# Altium integrated library WCAP-ASLI_rev15a.intlib: 107 symbols (part 1 of 3)
Pins are listed as number, name and electrical type; pins without a type are passive.

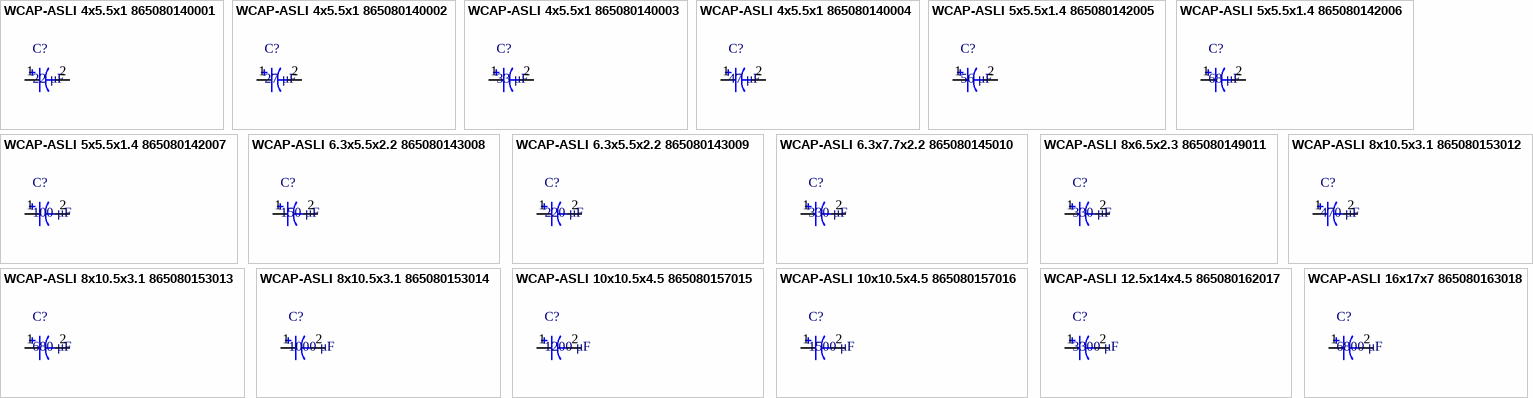
[diagram p0: symbols WCAP-ASLI 4x5.5x1 865080140001 to WCAP-ASLI 16x17x7 865080163018]

## WCAP-ASLI 4x5.5x1 865080140001
designator C?, comment 22 μF
WCAP-ASLI Aluminum Electrolytic Capacitors , 22 μF; + / - 20%; 6,3 V , 4 x 5,5; Manufacturer: Wurth Elektronik; partNo: 865080140001; E-mail: libraries@we-online.com; Characteristics: Aluminum Electrolytic Capacitor;Recommended soldering: Reflow;Operating temperature: –55 °C to +105 °C;Low impedance product series;Load life: 2000 h @ +105 °C; ComponentLink1Description: Manufacturer; ComponentLink1URL: http://www.we-online.com; ComponentLink2Description: Datasheet; ComponentLink2URL: http://katalog.we-online.de/pbs/datasheet/865080140001.pdf; Created by: Karrer Zheng; Created Date: 5/13/2015; Capacitance: 22 μF; Application: Energy storage or high frequency filtering in the low voltage circuit; used as power supply filtering in general switching power supply, DC-DC converter, AC-DC converter, conversion adapter, charger, TV, VCR, DC motor circuit filter, digital audio, digital TV, digital camera, digital video camera, satellite receiver, equipment control panel and etc.
footprint WCAP-ASLI 4x5.5x1
pins: 1, 2

## WCAP-ASLI 4x5.5x1 865080140002
designator C?, comment 27 μF
WCAP-ASLI Aluminum Electrolytic Capacitors , 27 μF; + / - 20%; 6,3 V , 4 x 5,5; Manufacturer: Wurth Elektronik; partNo: 865080140002; E-mail: libraries@we-online.com; Characteristics: Aluminum Electrolytic Capacitor;Recommended soldering: Reflow;Operating temperature: –55 °C to +105 °C;Low impedance product series;Load life: 2000 h @ +105 °C; ComponentLink1Description: Manufacturer; ComponentLink1URL: http://www.we-online.com; ComponentLink2Description: Datasheet; ComponentLink2URL: http://katalog.we-online.de/pbs/datasheet/865080140002.pdf; Created by: Karrer Zheng; Created Date: 5/13/2015; Capacitance: 27 μF; Application: Energy storage or high frequency filtering in the low voltage circuit; used as power supply filtering in general switching power supply, DC-DC converter, AC-DC converter, conversion adapter, charger, TV, VCR, DC motor circuit filter, digital audio, digital TV, digital camera, digital video camera, satellite receiver, equipment control panel and etc.
footprint WCAP-ASLI 4x5.5x1
pins: 1, 2

## WCAP-ASLI 4x5.5x1 865080140003
designator C?, comment 33 μF
WCAP-ASLI Aluminum Electrolytic Capacitors , 33 μF; + / - 20%; 6,3 V , 4 x 5,5; Manufacturer: Wurth Elektronik; partNo: 865080140003; E-mail: libraries@we-online.com; Characteristics: Aluminum Electrolytic Capacitor;Recommended soldering: Reflow;Operating temperature: –55 °C to +105 °C;Low impedance product series;Load life: 2000 h @ +105 °C; ComponentLink1Description: Manufacturer; ComponentLink1URL: http://www.we-online.com; ComponentLink2Description: Datasheet; ComponentLink2URL: http://katalog.we-online.de/pbs/datasheet/865080140003.pdf; Created by: Karrer Zheng; Created Date: 5/13/2015; Capacitance: 33 μF; Application: Energy storage or high frequency filtering in the low voltage circuit; used as power supply filtering in general switching power supply, DC-DC converter, AC-DC converter, conversion adapter, charger, TV, VCR, DC motor circuit filter, digital audio, digital TV, digital camera, digital video camera, satellite receiver, equipment control panel and etc.
footprint WCAP-ASLI 4x5.5x1
pins: 1, 2

## WCAP-ASLI 4x5.5x1 865080140004
designator C?, comment 47 μF
WCAP-ASLI Aluminum Electrolytic Capacitors , 47 μF; + / - 20%; 6,3 V , 4 x 5,5; Manufacturer: Wurth Elektronik; partNo: 865080140004; E-mail: libraries@we-online.com; Characteristics: Aluminum Electrolytic Capacitor;Recommended soldering: Reflow;Operating temperature: –55 °C to +105 °C;Low impedance product series;Load life: 2000 h @ +105 °C; ComponentLink1Description: Manufacturer; ComponentLink1URL: http://www.we-online.com; ComponentLink2Description: Datasheet; ComponentLink2URL: http://katalog.we-online.de/pbs/datasheet/865080140004.pdf; Created by: Karrer Zheng; Created Date: 5/13/2015; Capacitance: 47 μF; Application: Energy storage or high frequency filtering in the low voltage circuit; used as power supply filtering in general switching power supply, DC-DC converter, AC-DC converter, conversion adapter, charger, TV, VCR, DC motor circuit filter, digital audio, digital TV, digital camera, digital video camera, satellite receiver, equipment control panel and etc.
footprint WCAP-ASLI 4x5.5x1
pins: 1, 2

## WCAP-ASLI 5x5.5x1.4 865080142005
designator C?, comment 56 μF
WCAP-ASLI Aluminum Electrolytic Capacitors , 56 μF; + / - 20%; 6,3 V , 5 x 5,5; Manufacturer: Wurth Elektronik; partNo: 865080142005; E-mail: libraries@we-online.com; Characteristics: Aluminum Electrolytic Capacitor;Recommended soldering: Reflow;Operating temperature: –55 °C to +105 °C;Low impedance product series;Load life: 2000 h @ +105 °C; ComponentLink1Description: Manufacturer; ComponentLink1URL: http://www.we-online.com; ComponentLink2Description: Datasheet; ComponentLink2URL: http://katalog.we-online.de/pbs/datasheet/865080142005.pdf; Created by: Karrer Zheng; Created Date: 5/13/2015; Capacitance: 56 μF; Application: Energy storage or high frequency filtering in the low voltage circuit; used as power supply filtering in general switching power supply, DC-DC converter, AC-DC converter, conversion adapter, charger, TV, VCR, DC motor circuit filter, digital audio, digital TV, digital camera, digital video camera, satellite receiver, equipment control panel and etc.
footprint WCAP-ASLI 5x5.5x1.4
pins: 1, 2

## WCAP-ASLI 5x5.5x1.4 865080142006
designator C?, comment 68 μF
WCAP-ASLI Aluminum Electrolytic Capacitors , 68 μF; + / - 20%; 6,3 V , 5 x 5,5; Manufacturer: Wurth Elektronik; partNo: 865080142006; E-mail: libraries@we-online.com; Characteristics: Aluminum Electrolytic Capacitor;Recommended soldering: Reflow;Operating temperature: –55 °C to +105 °C;Low impedance product series;Load life: 2000 h @ +105 °C; ComponentLink1Description: Manufacturer; ComponentLink1URL: http://www.we-online.com; ComponentLink2Description: Datasheet; ComponentLink2URL: http://katalog.we-online.de/pbs/datasheet/865080142006.pdf; Created by: Karrer Zheng; Created Date: 5/13/2015; Capacitance: 68 μF; Application: Energy storage or high frequency filtering in the low voltage circuit; used as power supply filtering in general switching power supply, DC-DC converter, AC-DC converter, conversion adapter, charger, TV, VCR, DC motor circuit filter, digital audio, digital TV, digital camera, digital video camera, satellite receiver, equipment control panel and etc.
footprint WCAP-ASLI 5x5.5x1.4
pins: 1, 2

## WCAP-ASLI 5x5.5x1.4 865080142007
designator C?, comment 100 μF
WCAP-ASLI Aluminum Electrolytic Capacitors , 100 μF; + / - 20%; 6,3 V , 5 x 5,5; Manufacturer: Wurth Elektronik; partNo: 865080142007; E-mail: libraries@we-online.com; Characteristics: Aluminum Electrolytic Capacitor;Recommended soldering: Reflow;Operating temperature: –55 °C to +105 °C;Low impedance product series;Load life: 2000 h @ +105 °C; ComponentLink1Description: Manufacturer; ComponentLink1URL: http://www.we-online.com; ComponentLink2Description: Datasheet; ComponentLink2URL: http://katalog.we-online.de/pbs/datasheet/865080142007.pdf; Created by: Karrer Zheng; Created Date: 5/13/2015; Capacitance: 100 μF; Application: Energy storage or high frequency filtering in the low voltage circuit; used as power supply filtering in general switching power supply, DC-DC converter, AC-DC converter, conversion adapter, charger, TV, VCR, DC motor circuit filter, digital audio, digital TV, digital camera, digital video camera, satellite receiver, equipment control panel and etc.
footprint WCAP-ASLI 5x5.5x1.4
pins: 1, 2

## WCAP-ASLI 6.3x5.5x2.2 865080143008
designator C?, comment 150 μF
WCAP-ASLI Aluminum Electrolytic Capacitors , 150 μF; + / - 20%; 6,3 V , 6,3 x 5,5; Manufacturer: Wurth Elektronik; partNo: 865080143008; E-mail: libraries@we-online.com; Characteristics: Aluminum Electrolytic Capacitor;Recommended soldering: Reflow;Operating temperature: –55 °C to +105 °C;Low impedance product series;Load life: 2000 h @ +105 °C; ComponentLink1Description: Manufacturer; ComponentLink1URL: http://www.we-online.com; ComponentLink2Description: Datasheet; ComponentLink2URL: http://katalog.we-online.de/pbs/datasheet/865080143008.pdf; Created by: Karrer Zheng; Created Date: 5/13/2015; Capacitance: 150 μF; Application: Energy storage or high frequency filtering in the low voltage circuit; used as power supply filtering in general switching power supply, DC-DC converter, AC-DC converter, conversion adapter, charger, TV, VCR, DC motor circuit filter, digital audio, digital TV, digital camera, digital video camera, satellite receiver, equipment control panel and etc.
footprint WCAP-ASLI 6.3x5.5x2.2
pins: 1, 2

## WCAP-ASLI 6.3x5.5x2.2 865080143009
designator C?, comment 220 μF
WCAP-ASLI Aluminum Electrolytic Capacitors , 220 μF; + / - 20%; 6,3 V , 6,3 x 5,5; Manufacturer: Wurth Elektronik; partNo: 865080143009; E-mail: libraries@we-online.com; Characteristics: Aluminum Electrolytic Capacitor;Recommended soldering: Reflow;Operating temperature: –55 °C to +105 °C;Low impedance product series;Load life: 2000 h @ +105 °C; ComponentLink1Description: Manufacturer; ComponentLink1URL: http://www.we-online.com; ComponentLink2Description: Datasheet; ComponentLink2URL: http://katalog.we-online.de/pbs/datasheet/865080143009.pdf; Created by: Karrer Zheng; Created Date: 5/13/2015; Capacitance: 220 μF; Application: Energy storage or high frequency filtering in the low voltage circuit; used as power supply filtering in general switching power supply, DC-DC converter, AC-DC converter, conversion adapter, charger, TV, VCR, DC motor circuit filter, digital audio, digital TV, digital camera, digital video camera, satellite receiver, equipment control panel and etc.
footprint WCAP-ASLI 6.3x5.5x2.2
pins: 1, 2

## WCAP-ASLI 6.3x7.7x2.2 865080145010
designator C?, comment 330 μF
WCAP-ASLI Aluminum Electrolytic Capacitors , 330 μF; + / - 20%; 6,3 V , 6,3 x 7,7; Manufacturer: Wurth Elektronik; partNo: 865080145010; E-mail: libraries@we-online.com; Characteristics: Aluminum Electrolytic Capacitor;Recommended soldering: Reflow;Operating temperature: –55 °C to +105 °C;Low impedance product series;Load life: 2000 h @ +105 °C; ComponentLink1Description: Manufacturer; ComponentLink1URL: http://www.we-online.com; ComponentLink2Description: Datasheet; ComponentLink2URL: http://katalog.we-online.de/pbs/datasheet/865080145010.pdf; Created by: Karrer Zheng; Created Date: 5/13/2015; Capacitance: 330 μF; Application: Energy storage or high frequency filtering in the low voltage circuit; used as power supply filtering in general switching power supply, DC-DC converter, AC-DC converter, conversion adapter, charger, TV, VCR, DC motor circuit filter, digital audio, digital TV, digital camera, digital video camera, satellite receiver, equipment control panel and etc.
footprint WCAP-ASLI 6.3x7.7x2.2
pins: 1, 2

## WCAP-ASLI 8x6.5x2.3 865080149011
designator C?, comment 330 μF
WCAP-ASLI Aluminum Electrolytic Capacitors , 330 μF; + / - 20%; 6,3 V , 8 x 6,5; Manufacturer: Wurth Elektronik; partNo: 865080149011; E-mail: libraries@we-online.com; Characteristics: Aluminum Electrolytic Capacitor;Recommended soldering: Reflow;Operating temperature: –55 °C to +105 °C;Low impedance product series;Load life: 2000 h @ +105 °C; ComponentLink1Description: Manufacturer; ComponentLink1URL: http://www.we-online.com; ComponentLink2Description: Datasheet; ComponentLink2URL: http://katalog.we-online.de/pbs/datasheet/865080149011.pdf; Created by: Karrer Zheng; Created Date: 5/13/2015; Capacitance: 330 μF; Application: Energy storage or high frequency filtering in the low voltage circuit; used as power supply filtering in general switching power supply, DC-DC converter, AC-DC converter, conversion adapter, charger, TV, VCR, DC motor circuit filter, digital audio, digital TV, digital camera, digital video camera, satellite receiver, equipment control panel and etc.
footprint WCAP-ASLI 8x6.5x2.3
pins: 1, 2

## WCAP-ASLI 8x10.5x3.1 865080153012
designator C?, comment 470 μF
WCAP-ASLI Aluminum Electrolytic Capacitors , 470 μF; + / - 20%; 6,3 V , 8 x 10,5; Manufacturer: Wurth Elektronik; partNo: 865080153012; E-mail: libraries@we-online.com; Characteristics: Aluminum Electrolytic Capacitor;Recommended soldering: Reflow;Operating temperature: –55 °C to +105 °C;Low impedance product series;Load life: 2000 h @ +105 °C; ComponentLink1Description: Manufacturer; ComponentLink1URL: http://www.we-online.com; ComponentLink2Description: Datasheet; ComponentLink2URL: http://katalog.we-online.de/pbs/datasheet/865080153012.pdf; Created by: Karrer Zheng; Created Date: 5/13/2015; Capacitance: 470 μF; Application: Energy storage or high frequency filtering in the low voltage circuit; used as power supply filtering in general switching power supply, DC-DC converter, AC-DC converter, conversion adapter, charger, TV, VCR, DC motor circuit filter, digital audio, digital TV, digital camera, digital video camera, satellite receiver, equipment control panel and etc.
footprint WCAP-ASLI 8x10.5x3.1
pins: 1, 2

## WCAP-ASLI 8x10.5x3.1 865080153013
designator C?, comment 680 μF
WCAP-ASLI Aluminum Electrolytic Capacitors , 680 μF; + / - 20%; 6,3 V , 8 x 10,5; Manufacturer: Wurth Elektronik; partNo: 865080153013; E-mail: libraries@we-online.com; Characteristics: Aluminum Electrolytic Capacitor;Recommended soldering: Reflow;Operating temperature: –55 °C to +105 °C;Low impedance product series;Load life: 2000 h @ +105 °C; ComponentLink1Description: Manufacturer; ComponentLink1URL: http://www.we-online.com; ComponentLink2Description: Datasheet; ComponentLink2URL: http://katalog.we-online.de/pbs/datasheet/865080153013.pdf; Created by: Karrer Zheng; Created Date: 5/13/2015; Capacitance: 680 μF; Application: Energy storage or high frequency filtering in the low voltage circuit; used as power supply filtering in general switching power supply, DC-DC converter, AC-DC converter, conversion adapter, charger, TV, VCR, DC motor circuit filter, digital audio, digital TV, digital camera, digital video camera, satellite receiver, equipment control panel and etc.
footprint WCAP-ASLI 8x10.5x3.1
pins: 1, 2

## WCAP-ASLI 8x10.5x3.1 865080153014
designator C?, comment 1000 μF
WCAP-ASLI Aluminum Electrolytic Capacitors , 1000 μF; + / - 20%; 6,3 V , 8 x 10,5; Manufacturer: Wurth Elektronik; partNo: 865080153014; E-mail: libraries@we-online.com; Characteristics: Aluminum Electrolytic Capacitor;Recommended soldering: Reflow;Operating temperature: –55 °C to +105 °C;Low impedance product series;Load life: 2000 h @ +105 °C; ComponentLink1Description: Manufacturer; ComponentLink1URL: http://www.we-online.com; ComponentLink2Description: Datasheet; ComponentLink2URL: http://katalog.we-online.de/pbs/datasheet/865080153014.pdf; Created by: Karrer Zheng; Created Date: 5/13/2015; Capacitance: 1000 μF; Application: Energy storage or high frequency filtering in the low voltage circuit; used as power supply filtering in general switching power supply, DC-DC converter, AC-DC converter, conversion adapter, charger, TV, VCR, DC motor circuit filter, digital audio, digital TV, digital camera, digital video camera, satellite receiver, equipment control panel and etc.
footprint WCAP-ASLI 8x10.5x3.1
pins: 1, 2

## WCAP-ASLI 10x10.5x4.5 865080157015
designator C?, comment 1200 μF
WCAP-ASLI Aluminum Electrolytic Capacitors , 1200 μF; + / - 20%; 6,3 V , 10 x 10,5; Manufacturer: Wurth Elektronik; partNo: 865080157015; E-mail: libraries@we-online.com; Characteristics: Aluminum Electrolytic Capacitor;Recommended soldering: Reflow;Operating temperature: –55 °C to +105 °C;Low impedance product series;Load life: 2000 h @ +105 °C; ComponentLink1Description: Manufacturer; ComponentLink1URL: http://www.we-online.com; ComponentLink2Description: Datasheet; ComponentLink2URL: http://katalog.we-online.de/pbs/datasheet/865080157015.pdf; Created by: Karrer Zheng; Created Date: 5/13/2015; Capacitance: 1200 μF; Application: Energy storage or high frequency filtering in the low voltage circuit; used as power supply filtering in general switching power supply, DC-DC converter, AC-DC converter, conversion adapter, charger, TV, VCR, DC motor circuit filter, digital audio, digital TV, digital camera, digital video camera, satellite receiver, equipment control panel and etc.
footprint WCAP-ASLI 10x10.5x4.5
pins: 1, 2

## WCAP-ASLI 10x10.5x4.5 865080157016
designator C?, comment 1500 μF
WCAP-ASLI Aluminum Electrolytic Capacitors , 1500 μF; + / - 20%; 6,3 V , 10 x 10,5; Manufacturer: Wurth Elektronik; partNo: 865080157016; E-mail: libraries@we-online.com; Characteristics: Aluminum Electrolytic Capacitor;Recommended soldering: Reflow;Operating temperature: –55 °C to +105 °C;Low impedance product series;Load life: 2000 h @ +105 °C; ComponentLink1Description: Manufacturer; ComponentLink1URL: http://www.we-online.com; ComponentLink2Description: Datasheet; ComponentLink2URL: http://katalog.we-online.de/pbs/datasheet/865080157016.pdf; Created by: Karrer Zheng; Created Date: 5/13/2015; Capacitance: 1500 μF; Application: Energy storage or high frequency filtering in the low voltage circuit; used as power supply filtering in general switching power supply, DC-DC converter, AC-DC converter, conversion adapter, charger, TV, VCR, DC motor circuit filter, digital audio, digital TV, digital camera, digital video camera, satellite receiver, equipment control panel and etc.
footprint WCAP-ASLI 10x10.5x4.5
pins: 1, 2

## WCAP-ASLI 12.5x14x4.5 865080162017
designator C?, comment 3300 μF
WCAP-ASLI Aluminum Electrolytic Capacitors , 3300 μF; + / - 20%; 6,3 V , 12,5 x 14; Manufacturer: Wurth Elektronik; partNo: 865080162017; E-mail: libraries@we-online.com; Characteristics: Aluminum Electrolytic Capacitor;Recommended soldering: Reflow;Operating temperature: –55 °C to +105 °C;Low impedance product series;Load life: 2000 h @ +105 °C; ComponentLink1Description: Manufacturer; ComponentLink1URL: http://www.we-online.com; ComponentLink2Description: Datasheet; ComponentLink2URL: http://katalog.we-online.de/pbs/datasheet/865080162017.pdf; Created by: Karrer Zheng; Created Date: 5/13/2015; Capacitance: 3300 μF; Application: Energy storage or high frequency filtering in the low voltage circuit; used as power supply filtering in general switching power supply, DC-DC converter, AC-DC converter, conversion adapter, charger, TV, VCR, DC motor circuit filter, digital audio, digital TV, digital camera, digital video camera, satellite receiver, equipment control panel and etc.
footprint WCAP-ASLI 12.5x14x4.5
pins: 1, 2

## WCAP-ASLI 16x17x7 865080163018
designator C?, comment 6800 μF
WCAP-ASLI Aluminum Electrolytic Capacitors , 6800 μF; + / - 20%; 6,3 V , 16 x 17; Manufacturer: Wurth Elektronik; partNo: 865080163018; E-mail: libraries@we-online.com; Characteristics: Aluminum Electrolytic Capacitor;Recommended soldering: Reflow;Operating temperature: –55 °C to +105 °C;Low impedance product series;Load life: 2000 h @ +105 °C; ComponentLink1Description: Manufacturer; ComponentLink1URL: http://www.we-online.com; ComponentLink2Description: Datasheet; ComponentLink2URL: http://katalog.we-online.de/pbs/datasheet/865080163018.pdf; Created by: Karrer Zheng; Created Date: 5/13/2015; Capacitance: 6800 μF; Application: Energy storage or high frequency filtering in the low voltage circuit; used as power supply filtering in general switching power supply, DC-DC converter, AC-DC converter, conversion adapter, charger, TV, VCR, DC motor circuit filter, digital audio, digital TV, digital camera, digital video camera, satellite receiver, equipment control panel and etc.
footprint WCAP-ASLI 16x17x7
pins: 1, 2


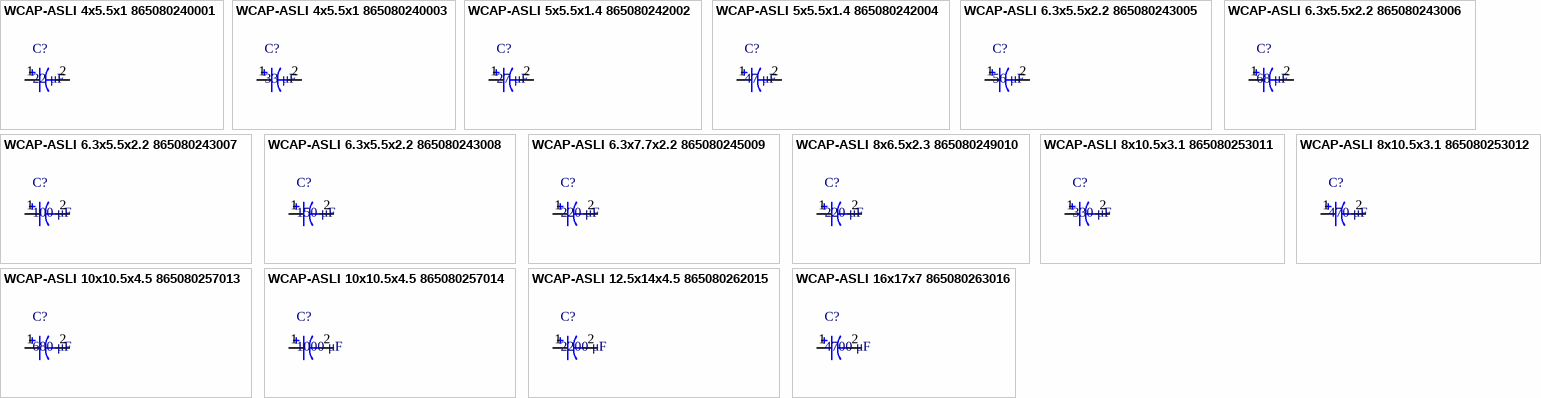
[diagram p1: symbols WCAP-ASLI 4x5.5x1 865080240001 to WCAP-ASLI 16x17x7 865080263016]

## WCAP-ASLI 4x5.5x1 865080240001
designator C?, comment 22 μF
WCAP-ASLI Aluminum Electrolytic Capacitors , 22 μF; + / - 20%; 10 V , 4 x 5,5; Manufacturer: Wurth Elektronik; partNo: 865080240001; E-mail: libraries@we-online.com; Characteristics: Aluminum Electrolytic Capacitor;Recommended soldering: Reflow;Operating temperature: –55 °C to +105 °C;Low impedance product series;Load life: 2000 h @ +105 °C; ComponentLink1Description: Manufacturer; ComponentLink1URL: http://www.we-online.com; ComponentLink2Description: Datasheet; ComponentLink2URL: http://katalog.we-online.de/pbs/datasheet/865080240001.pdf; Created by: Karrer Zheng; Created Date: 5/13/2015; Capacitance: 22 μF; Application: Energy storage or high frequency filtering in the low voltage circuit; used as power supply filtering in general switching power supply, DC-DC converter, AC-DC converter, conversion adapter, charger, TV, VCR, DC motor circuit filter, digital audio, digital TV, digital camera, digital video camera, satellite receiver, equipment control panel and etc.
footprint WCAP-ASLI 4x5.5x1
pins: 1, 2

## WCAP-ASLI 4x5.5x1 865080240003
designator C?, comment 33 μF
WCAP-ASLI Aluminum Electrolytic Capacitors , 33 μF; + / - 20%; 10 V , 4 x 5,5; Manufacturer: Wurth Elektronik; partNo: 865080240003; E-mail: libraries@we-online.com; Characteristics: Aluminum Electrolytic Capacitor;Recommended soldering: Reflow;Operating temperature: –55 °C to +105 °C;Low impedance product series;Load life: 2000 h @ +105 °C; ComponentLink1Description: Manufacturer; ComponentLink1URL: http://www.we-online.com; ComponentLink2Description: Datasheet; ComponentLink2URL: http://katalog.we-online.de/pbs/datasheet/865080240003.pdf; Created by: Karrer Zheng; Created Date: 5/13/2015; Capacitance: 33 μF; Application: Energy storage or high frequency filtering in the low voltage circuit; used as power supply filtering in general switching power supply, DC-DC converter, AC-DC converter, conversion adapter, charger, TV, VCR, DC motor circuit filter, digital audio, digital TV, digital camera, digital video camera, satellite receiver, equipment control panel and etc.
footprint WCAP-ASLI 4x5.5x1
pins: 1, 2

## WCAP-ASLI 5x5.5x1.4 865080242002
designator C?, comment 27 μF
WCAP-ASLI Aluminum Electrolytic Capacitors , 27 μF; + / - 20%; 10 V , 5 x 5,5; Manufacturer: Wurth Elektronik; partNo: 865080242002; E-mail: libraries@we-online.com; Characteristics: Aluminum Electrolytic Capacitor;Recommended soldering: Reflow;Operating temperature: –55 °C to +105 °C;Low impedance product series;Load life: 2000 h @ +105 °C; ComponentLink1Description: Manufacturer; ComponentLink1URL: http://www.we-online.com; ComponentLink2Description: Datasheet; ComponentLink2URL: http://katalog.we-online.de/pbs/datasheet/865080242002.pdf; Created by: Karrer Zheng; Created Date: 5/13/2015; Capacitance: 27 μF; Application: Energy storage or high frequency filtering in the low voltage circuit; used as power supply filtering in general switching power supply, DC-DC converter, AC-DC converter, conversion adapter, charger, TV, VCR, DC motor circuit filter, digital audio, digital TV, digital camera, digital video camera, satellite receiver, equipment control panel and etc.
footprint WCAP-ASLI 5x5.5x1.4
pins: 1, 2

## WCAP-ASLI 5x5.5x1.4 865080242004
designator C?, comment 47 μF
WCAP-ASLI Aluminum Electrolytic Capacitors , 47 μF; + / - 20%; 10 V , 5 x 5,5; Manufacturer: Wurth Elektronik; partNo: 865080242004; E-mail: libraries@we-online.com; Characteristics: Aluminum Electrolytic Capacitor;Recommended soldering: Reflow;Operating temperature: –55 °C to +105 °C;Low impedance product series;Load life: 2000 h @ +105 °C; ComponentLink1Description: Manufacturer; ComponentLink1URL: http://www.we-online.com; ComponentLink2Description: Datasheet; ComponentLink2URL: http://katalog.we-online.de/pbs/datasheet/865080242004.pdf; Created by: Karrer Zheng; Created Date: 5/13/2015; Capacitance: 47 μF; Application: Energy storage or high frequency filtering in the low voltage circuit; used as power supply filtering in general switching power supply, DC-DC converter, AC-DC converter, conversion adapter, charger, TV, VCR, DC motor circuit filter, digital audio, digital TV, digital camera, digital video camera, satellite receiver, equipment control panel and etc.
footprint WCAP-ASLI 5x5.5x1.4
pins: 1, 2

## WCAP-ASLI 6.3x5.5x2.2 865080243005
designator C?, comment 56 μF
WCAP-ASLI Aluminum Electrolytic Capacitors , 56 μF; + / - 20%; 10 V , 6,3 x 5,5; Manufacturer: Wurth Elektronik; partNo: 865080243005; E-mail: libraries@we-online.com; Characteristics: Aluminum Electrolytic Capacitor;Recommended soldering: Reflow;Operating temperature: –55 °C to +105 °C;Low impedance product series;Load life: 2000 h @ +105 °C; ComponentLink1Description: Manufacturer; ComponentLink1URL: http://www.we-online.com; ComponentLink2Description: Datasheet; ComponentLink2URL: http://katalog.we-online.de/pbs/datasheet/865080243005.pdf; Created by: Karrer Zheng; Created Date: 5/13/2015; Capacitance: 56 μF; Application: Energy storage or high frequency filtering in the low voltage circuit; used as power supply filtering in general switching power supply, DC-DC converter, AC-DC converter, conversion adapter, charger, TV, VCR, DC motor circuit filter, digital audio, digital TV, digital camera, digital video camera, satellite receiver, equipment control panel and etc.
footprint WCAP-ASLI 6.3x5.5x2.2
pins: 1, 2

## WCAP-ASLI 6.3x5.5x2.2 865080243006
designator C?, comment 68 μF
WCAP-ASLI Aluminum Electrolytic Capacitors , 68 μF; + / - 20%; 10 V , 6,3 x 5,5; Manufacturer: Wurth Elektronik; partNo: 865080243006; E-mail: libraries@we-online.com; Characteristics: Aluminum Electrolytic Capacitor;Recommended soldering: Reflow;Operating temperature: –55 °C to +105 °C;Low impedance product series;Load life: 2000 h @ +105 °C; ComponentLink1Description: Manufacturer; ComponentLink1URL: http://www.we-online.com; ComponentLink2Description: Datasheet; ComponentLink2URL: http://katalog.we-online.de/pbs/datasheet/865080243006.pdf; Created by: Karrer Zheng; Created Date: 5/13/2015; Capacitance: 68 μF; Application: Energy storage or high frequency filtering in the low voltage circuit; used as power supply filtering in general switching power supply, DC-DC converter, AC-DC converter, conversion adapter, charger, TV, VCR, DC motor circuit filter, digital audio, digital TV, digital camera, digital video camera, satellite receiver, equipment control panel and etc.
footprint WCAP-ASLI 6.3x5.5x2.2
pins: 1, 2

## WCAP-ASLI 6.3x5.5x2.2 865080243007
designator C?, comment 100 μF
WCAP-ASLI Aluminum Electrolytic Capacitors , 100 μF; + / - 20%; 10 V , 6,3 x 5,5; Manufacturer: Wurth Elektronik; partNo: 865080243007; E-mail: libraries@we-online.com; Characteristics: Aluminum Electrolytic Capacitor;Recommended soldering: Reflow;Operating temperature: –55 °C to +105 °C;Low impedance product series;Load life: 2000 h @ +105 °C; ComponentLink1Description: Manufacturer; ComponentLink1URL: http://www.we-online.com; ComponentLink2Description: Datasheet; ComponentLink2URL: http://katalog.we-online.de/pbs/datasheet/865080243007.pdf; Created by: Karrer Zheng; Created Date: 5/13/2015; Capacitance: 100 μF; Application: Energy storage or high frequency filtering in the low voltage circuit; used as power supply filtering in general switching power supply, DC-DC converter, AC-DC converter, conversion adapter, charger, TV, VCR, DC motor circuit filter, digital audio, digital TV, digital camera, digital video camera, satellite receiver, equipment control panel and etc.
footprint WCAP-ASLI 6.3x5.5x2.2
pins: 1, 2

## WCAP-ASLI 6.3x5.5x2.2 865080243008
designator C?, comment 150 μF
WCAP-ASLI Aluminum Electrolytic Capacitors , 150 μF; + / - 20%; 10 V , 6,3 x 5,5; Manufacturer: Wurth Elektronik; partNo: 865080243008; E-mail: libraries@we-online.com; Characteristics: Aluminum Electrolytic Capacitor;Recommended soldering: Reflow;Operating temperature: –55 °C to +105 °C;Low impedance product series;Load life: 2000 h @ +105 °C; ComponentLink1Description: Manufacturer; ComponentLink1URL: http://www.we-online.com; ComponentLink2Description: Datasheet; ComponentLink2URL: http://katalog.we-online.de/pbs/datasheet/865080243008.pdf; Created by: Karrer Zheng; Created Date: 5/13/2015; Capacitance: 150 μF; Application: Energy storage or high frequency filtering in the low voltage circuit; used as power supply filtering in general switching power supply, DC-DC converter, AC-DC converter, conversion adapter, charger, TV, VCR, DC motor circuit filter, digital audio, digital TV, digital camera, digital video camera, satellite receiver, equipment control panel and etc.
footprint WCAP-ASLI 6.3x5.5x2.2
pins: 1, 2

## WCAP-ASLI 6.3x7.7x2.2 865080245009
designator C?, comment 220 μF
WCAP-ASLI Aluminum Electrolytic Capacitors , 220 μF; + / - 20%; 10 V , 6,3 x 7,7; Manufacturer: Wurth Elektronik; partNo: 865080245009; E-mail: libraries@we-online.com; Characteristics: Aluminum Electrolytic Capacitor;Recommended soldering: Reflow;Operating temperature: –55 °C to +105 °C;Low impedance product series;Load life: 2000 h @ +105 °C; ComponentLink1Description: Manufacturer; ComponentLink1URL: http://www.we-online.com; ComponentLink2Description: Datasheet; ComponentLink2URL: http://katalog.we-online.de/pbs/datasheet/865080245009.pdf; Created by: Karrer Zheng; Created Date: 5/13/2015; Capacitance: 220 μF; Application: Energy storage or high frequency filtering in the low voltage circuit; used as power supply filtering in general switching power supply, DC-DC converter, AC-DC converter, conversion adapter, charger, TV, VCR, DC motor circuit filter, digital audio, digital TV, digital camera, digital video camera, satellite receiver, equipment control panel and etc.
footprint WCAP-ASLI 6.3x7.7x2.2
pins: 1, 2

## WCAP-ASLI 8x6.5x2.3 865080249010
designator C?, comment 220 μF
WCAP-ASLI Aluminum Electrolytic Capacitors , 220 μF; + / - 20%; 10 V , 8 x 6,5; Manufacturer: Wurth Elektronik; partNo: 865080249010; E-mail: libraries@we-online.com; Characteristics: Aluminum Electrolytic Capacitor;Recommended soldering: Reflow;Operating temperature: –55 °C to +105 °C;Low impedance product series;Load life: 2000 h @ +105 °C; ComponentLink1Description: Manufacturer; ComponentLink1URL: http://www.we-online.com; ComponentLink2Description: Datasheet; ComponentLink2URL: http://katalog.we-online.de/pbs/datasheet/865080249010.pdf; Created by: Karrer Zheng; Created Date: 5/13/2015; Capacitance: 220 μF; Application: Energy storage or high frequency filtering in the low voltage circuit; used as power supply filtering in general switching power supply, DC-DC converter, AC-DC converter, conversion adapter, charger, TV, VCR, DC motor circuit filter, digital audio, digital TV, digital camera, digital video camera, satellite receiver, equipment control panel and etc.
footprint WCAP-ASLI 8x6.5x2.3
pins: 1, 2

## WCAP-ASLI 8x10.5x3.1 865080253011
designator C?, comment 330 μF
WCAP-ASLI Aluminum Electrolytic Capacitors , 330 μF; + / - 20%; 10 V , 8 x 10,5; Manufacturer: Wurth Elektronik; partNo: 865080253011; E-mail: libraries@we-online.com; Characteristics: Aluminum Electrolytic Capacitor;Recommended soldering: Reflow;Operating temperature: –55 °C to +105 °C;Low impedance product series;Load life: 2000 h @ +105 °C; ComponentLink1Description: Manufacturer; ComponentLink1URL: http://www.we-online.com; ComponentLink2Description: Datasheet; ComponentLink2URL: http://katalog.we-online.de/pbs/datasheet/865080253011.pdf; Created by: Karrer Zheng; Created Date: 5/13/2015; Capacitance: 330 μF; Application: Energy storage or high frequency filtering in the low voltage circuit; used as power supply filtering in general switching power supply, DC-DC converter, AC-DC converter, conversion adapter, charger, TV, VCR, DC motor circuit filter, digital audio, digital TV, digital camera, digital video camera, satellite receiver, equipment control panel and etc.
footprint WCAP-ASLI 8x10.5x3.1
pins: 1, 2

## WCAP-ASLI 8x10.5x3.1 865080253012
designator C?, comment 470 μF
WCAP-ASLI Aluminum Electrolytic Capacitors , 470 μF; + / - 20%; 10 V , 8 x 10,5; Manufacturer: Wurth Elektronik; partNo: 865080253012; E-mail: libraries@we-online.com; Characteristics: Aluminum Electrolytic Capacitor;Recommended soldering: Reflow;Operating temperature: –55 °C to +105 °C;Low impedance product series;Load life: 2000 h @ +105 °C; ComponentLink1Description: Manufacturer; ComponentLink1URL: http://www.we-online.com; ComponentLink2Description: Datasheet; ComponentLink2URL: http://katalog.we-online.de/pbs/datasheet/865080253012.pdf; Created by: Karrer Zheng; Created Date: 5/13/2015; Capacitance: 470 μF; Application: Energy storage or high frequency filtering in the low voltage circuit; used as power supply filtering in general switching power supply, DC-DC converter, AC-DC converter, conversion adapter, charger, TV, VCR, DC motor circuit filter, digital audio, digital TV, digital camera, digital video camera, satellite receiver, equipment control panel and etc.
footprint WCAP-ASLI 8x10.5x3.1
pins: 1, 2

## WCAP-ASLI 10x10.5x4.5 865080257013
designator C?, comment 680 μF
WCAP-ASLI Aluminum Electrolytic Capacitors , 680 μF; + / - 20%; 10 V , 10 x 10,5; Manufacturer: Wurth Elektronik; partNo: 865080257013; E-mail: libraries@we-online.com; Characteristics: Aluminum Electrolytic Capacitor;Recommended soldering: Reflow;Operating temperature: –55 °C to +105 °C;Low impedance product series;Load life: 2000 h @ +105 °C; ComponentLink1Description: Manufacturer; ComponentLink1URL: http://www.we-online.com; ComponentLink2Description: Datasheet; ComponentLink2URL: http://katalog.we-online.de/pbs/datasheet/865080257013.pdf; Created by: Karrer Zheng; Created Date: 5/13/2015; Capacitance: 680 μF; Application: Energy storage or high frequency filtering in the low voltage circuit; used as power supply filtering in general switching power supply, DC-DC converter, AC-DC converter, conversion adapter, charger, TV, VCR, DC motor circuit filter, digital audio, digital TV, digital camera, digital video camera, satellite receiver, equipment control panel and etc.
footprint WCAP-ASLI 10x10.5x4.5
pins: 1, 2

## WCAP-ASLI 10x10.5x4.5 865080257014
designator C?, comment 1000 μF
WCAP-ASLI Aluminum Electrolytic Capacitors , 1000 μF; + / - 20%; 10 V , 10 x 10,5; Manufacturer: Wurth Elektronik; partNo: 865080257014; E-mail: libraries@we-online.com; Characteristics: Aluminum Electrolytic Capacitor;Recommended soldering: Reflow;Operating temperature: –55 °C to +105 °C;Low impedance product series;Load life: 2000 h @ +105 °C; ComponentLink1Description: Manufacturer; ComponentLink1URL: http://www.we-online.com; ComponentLink2Description: Datasheet; ComponentLink2URL: http://katalog.we-online.de/pbs/datasheet/865080257014.pdf; Created by: Karrer Zheng; Created Date: 5/13/2015; Capacitance: 1000 μF; Application: Energy storage or high frequency filtering in the low voltage circuit; used as power supply filtering in general switching power supply, DC-DC converter, AC-DC converter, conversion adapter, charger, TV, VCR, DC motor circuit filter, digital audio, digital TV, digital camera, digital video camera, satellite receiver, equipment control panel and etc.
footprint WCAP-ASLI 10x10.5x4.5
pins: 1, 2

## WCAP-ASLI 12.5x14x4.5 865080262015
designator C?, comment 2200 μF
WCAP-ASLI Aluminum Electrolytic Capacitors , 2200 μF; + / - 20%; 10 V , 12,5 x 14; Manufacturer: Wurth Elektronik; partNo: 865080262015; E-mail: libraries@we-online.com; Characteristics: Aluminum Electrolytic Capacitor;Recommended soldering: Reflow;Operating temperature: –55 °C to +105 °C;Low impedance product series;Load life: 2000 h @ +105 °C; ComponentLink1Description: Manufacturer; ComponentLink1URL: http://www.we-online.com; ComponentLink2Description: Datasheet; ComponentLink2URL: http://katalog.we-online.de/pbs/datasheet/865080262015.pdf; Created by: Karrer Zheng; Created Date: 5/13/2015; Capacitance: 2200 μF; Application: Energy storage or high frequency filtering in the low voltage circuit; used as power supply filtering in general switching power supply, DC-DC converter, AC-DC converter, conversion adapter, charger, TV, VCR, DC motor circuit filter, digital audio, digital TV, digital camera, digital video camera, satellite receiver, equipment control panel and etc.
footprint WCAP-ASLI 12.5x14x4.5 (Polarized capacitors, Aluminum Electrolytic Capacitors, 2-Leads, Body 12.5x14x4.5)
pins: 1, 2

## WCAP-ASLI 16x17x7 865080263016
designator C?, comment 4700 μF
WCAP-ASLI Aluminum Electrolytic Capacitors , 4700 μF; + / - 20%; 10 V , 16 x 17; Manufacturer: Wurth Elektronik; partNo: 865080263016; E-mail: libraries@we-online.com; Characteristics: Aluminum Electrolytic Capacitor;Recommended soldering: Reflow;Operating temperature: –55 °C to +105 °C;Low impedance product series;Load life: 2000 h @ +105 °C; ComponentLink1Description: Manufacturer; ComponentLink1URL: http://www.we-online.com; ComponentLink2Description: Datasheet; ComponentLink2URL: http://katalog.we-online.de/pbs/datasheet/865080263016.pdf; Created by: Karrer Zheng; Created Date: 5/13/2015; Capacitance: 4700 μF; Application: Energy storage or high frequency filtering in the low voltage circuit; used as power supply filtering in general switching power supply, DC-DC converter, AC-DC converter, conversion adapter, charger, TV, VCR, DC motor circuit filter, digital audio, digital TV, digital camera, digital video camera, satellite receiver, equipment control panel and etc.
footprint WCAP-ASLI 16x17x7
pins: 1, 2


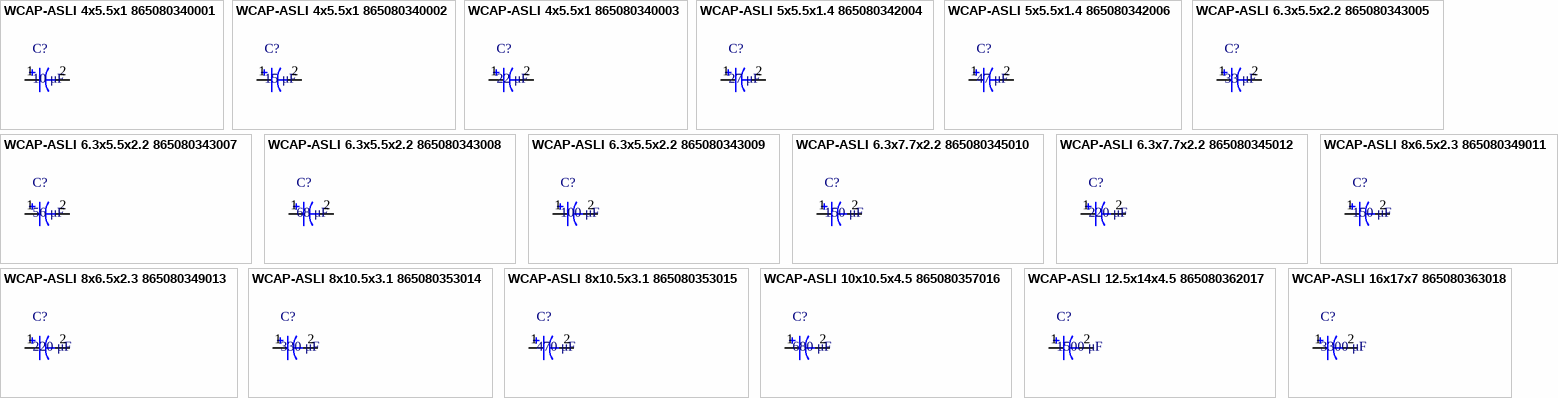
[diagram p2: symbols WCAP-ASLI 4x5.5x1 865080340001 to WCAP-ASLI 16x17x7 865080363018]

## WCAP-ASLI 4x5.5x1 865080340001
designator C?, comment 10 μF
WCAP-ASLI Aluminum Electrolytic Capacitors , 10 μF; + / - 20%; 16 V , 4 x 5,5; Manufacturer: Wurth Elektronik; partNo: 865080340001; E-mail: libraries@we-online.com; Characteristics: Aluminum Electrolytic Capacitor;Recommended soldering: Reflow;Operating temperature: –55 °C to +105 °C;Low impedance product series;Load life: 2000 h @ +105 °C; ComponentLink1Description: Manufacturer; ComponentLink1URL: http://www.we-online.com; ComponentLink2Description: Datasheet; ComponentLink2URL: http://katalog.we-online.de/pbs/datasheet/865080340001.pdf; Created by: Karrer Zheng; Created Date: 5/13/2015; Capacitance: 10 μF; Application: Energy storage or high frequency filtering in the low voltage circuit; used as power supply filtering in general switching power supply, DC-DC converter, AC-DC converter, conversion adapter, charger, TV, VCR, DC motor circuit filter, digital audio, digital TV, digital camera, digital video camera, satellite receiver, equipment control panel and etc.
footprint WCAP-ASLI 4x5.5x1
pins: 1, 2

## WCAP-ASLI 4x5.5x1 865080340002
designator C?, comment 15 μF
WCAP-ASLI Aluminum Electrolytic Capacitors , 15 μF; + / - 20%; 16 V , 4 x 5,5; Manufacturer: Wurth Elektronik; partNo: 865080340002; E-mail: libraries@we-online.com; Characteristics: Aluminum Electrolytic Capacitor;Recommended soldering: Reflow;Operating temperature: –55 °C to +105 °C;Low impedance product series;Load life: 2000 h @ +105 °C; ComponentLink1Description: Manufacturer; ComponentLink1URL: http://www.we-online.com; ComponentLink2Description: Datasheet; ComponentLink2URL: http://katalog.we-online.de/pbs/datasheet/865080340002.pdf; Created by: Karrer Zheng; Created Date: 5/13/2015; Capacitance: 15 μF; Application: Energy storage or high frequency filtering in the low voltage circuit; used as power supply filtering in general switching power supply, DC-DC converter, AC-DC converter, conversion adapter, charger, TV, VCR, DC motor circuit filter, digital audio, digital TV, digital camera, digital video camera, satellite receiver, equipment control panel and etc.
footprint WCAP-ASLI 4x5.5x1
pins: 1, 2

## WCAP-ASLI 4x5.5x1 865080340003
designator C?, comment 22 μF
WCAP-ASLI Aluminum Electrolytic Capacitors , 22 μF; + / - 20%; 16 V , 4 x 5,5; Manufacturer: Wurth Elektronik; partNo: 865080340003; E-mail: libraries@we-online.com; Characteristics: Aluminum Electrolytic Capacitor;Recommended soldering: Reflow;Operating temperature: –55 °C to +105 °C;Low impedance product series;Load life: 2000 h @ +105 °C; ComponentLink1Description: Manufacturer; ComponentLink1URL: http://www.we-online.com; ComponentLink2Description: Datasheet; ComponentLink2URL: http://katalog.we-online.de/pbs/datasheet/865080340003.pdf; Created by: Karrer Zheng; Created Date: 5/13/2015; Capacitance: 22 μF; Application: Energy storage or high frequency filtering in the low voltage circuit; used as power supply filtering in general switching power supply, DC-DC converter, AC-DC converter, conversion adapter, charger, TV, VCR, DC motor circuit filter, digital audio, digital TV, digital camera, digital video camera, satellite receiver, equipment control panel and etc.
footprint WCAP-ASLI 4x5.5x1
pins: 1, 2

## WCAP-ASLI 5x5.5x1.4 865080342004
designator C?, comment 27 μF
WCAP-ASLI Aluminum Electrolytic Capacitors , 27 μF; + / - 20%; 16 V , 5 x 5,5; Manufacturer: Wurth Elektronik; partNo: 865080342004; E-mail: libraries@we-online.com; Characteristics: Aluminum Electrolytic Capacitor;Recommended soldering: Reflow;Operating temperature: –55 °C to +105 °C;Low impedance product series;Load life: 2000 h @ +105 °C; ComponentLink1Description: Manufacturer; ComponentLink1URL: http://www.we-online.com; ComponentLink2Description: Datasheet; ComponentLink2URL: http://katalog.we-online.de/pbs/datasheet/865080342004.pdf; Created by: Karrer Zheng; Created Date: 5/13/2015; Capacitance: 27 μF; Application: Energy storage or high frequency filtering in the low voltage circuit; used as power supply filtering in general switching power supply, DC-DC converter, AC-DC converter, conversion adapter, charger, TV, VCR, DC motor circuit filter, digital audio, digital TV, digital camera, digital video camera, satellite receiver, equipment control panel and etc.
footprint WCAP-ASLI 5x5.5x1.4
pins: 1, 2

## WCAP-ASLI 5x5.5x1.4 865080342006
designator C?, comment 47 μF
WCAP-ASLI Aluminum Electrolytic Capacitors , 47 μF; + / - 20%; 16 V , 5 x 5,5; Manufacturer: Wurth Elektronik; partNo: 865080342006; E-mail: libraries@we-online.com; Characteristics: Aluminum Electrolytic Capacitor;Recommended soldering: Reflow;Operating temperature: –55 °C to +105 °C;Low impedance product series;Load life: 2000 h @ +105 °C; ComponentLink1Description: Manufacturer; ComponentLink1URL: http://www.we-online.com; ComponentLink2Description: Datasheet; ComponentLink2URL: http://katalog.we-online.de/pbs/datasheet/865080342006.pdf; Created by: Karrer Zheng; Created Date: 5/13/2015; Capacitance: 47 μF; Application: Energy storage or high frequency filtering in the low voltage circuit; used as power supply filtering in general switching power supply, DC-DC converter, AC-DC converter, conversion adapter, charger, TV, VCR, DC motor circuit filter, digital audio, digital TV, digital camera, digital video camera, satellite receiver, equipment control panel and etc.
footprint WCAP-ASLI 5x5.5x1.4
pins: 1, 2

## WCAP-ASLI 6.3x5.5x2.2 865080343005
designator C?, comment 33 μF
WCAP-ASLI Aluminum Electrolytic Capacitors , 33 μF; + / - 20%; 16 V , 6,3 x 5,5; Manufacturer: Wurth Elektronik; partNo: 865080343005; E-mail: libraries@we-online.com; Characteristics: Aluminum Electrolytic Capacitor;Recommended soldering: Reflow;Operating temperature: –55 °C to +105 °C;Low impedance product series;Load life: 2000 h @ +105 °C; ComponentLink1Description: Manufacturer; ComponentLink1URL: http://www.we-online.com; ComponentLink2Description: Datasheet; ComponentLink2URL: http://katalog.we-online.de/pbs/datasheet/865080343005.pdf; Created by: Karrer Zheng; Created Date: 5/13/2015; Capacitance: 33 μF; Application: Energy storage or high frequency filtering in the low voltage circuit; used as power supply filtering in general switching power supply, DC-DC converter, AC-DC converter, conversion adapter, charger, TV, VCR, DC motor circuit filter, digital audio, digital TV, digital camera, digital video camera, satellite receiver, equipment control panel and etc.
footprint WCAP-ASLI 6.3x5.5x2.2
pins: 1, 2

## WCAP-ASLI 6.3x5.5x2.2 865080343007
designator C?, comment 56 μF
WCAP-ASLI Aluminum Electrolytic Capacitors , 56 μF; + / - 20%; 16 V , 6,3 x 5,5; Manufacturer: Wurth Elektronik; partNo: 865080343007; E-mail: libraries@we-online.com; Characteristics: Aluminum Electrolytic Capacitor;Recommended soldering: Reflow;Operating temperature: –55 °C to +105 °C;Low impedance product series;Load life: 2000 h @ +105 °C; ComponentLink1Description: Manufacturer; ComponentLink1URL: http://www.we-online.com; ComponentLink2Description: Datasheet; ComponentLink2URL: http://katalog.we-online.de/pbs/datasheet/865080343007.pdf; Created by: Karrer Zheng; Created Date: 5/13/2015; Capacitance: 56 μF; Application: Energy storage or high frequency filtering in the low voltage circuit; used as power supply filtering in general switching power supply, DC-DC converter, AC-DC converter, conversion adapter, charger, TV, VCR, DC motor circuit filter, digital audio, digital TV, digital camera, digital video camera, satellite receiver, equipment control panel and etc.
footprint WCAP-ASLI 6.3x5.5x2.2
pins: 1, 2

## WCAP-ASLI 6.3x5.5x2.2 865080343008
designator C?, comment 68 μF
WCAP-ASLI Aluminum Electrolytic Capacitors , 68 μF; + / - 20%; 16 V , 6,3 x 5,5; Manufacturer: Wurth Elektronik; partNo: 865080343008; E-mail: libraries@we-online.com; Characteristics: Aluminum Electrolytic Capacitor;Recommended soldering: Reflow;Operating temperature: –55 °C to +105 °C;Low impedance product series;Load life: 2000 h @ +105 °C; ComponentLink1Description: Manufacturer; ComponentLink1URL: http://www.we-online.com; ComponentLink2Description: Datasheet; ComponentLink2URL: http://katalog.we-online.de/pbs/datasheet/865080343008.pdf; Created by: Karrer Zheng; Created Date: 5/13/2015; Capacitance: 68 μF; Application: Energy storage or high frequency filtering in the low voltage circuit; used as power supply filtering in general switching power supply, DC-DC converter, AC-DC converter, conversion adapter, charger, TV, VCR, DC motor circuit filter, digital audio, digital TV, digital camera, digital video camera, satellite receiver, equipment control panel and etc.
footprint WCAP-ASLI 6.3x5.5x2.2
pins: 1, 2

## WCAP-ASLI 6.3x5.5x2.2 865080343009
designator C?, comment 100 μF
WCAP-ASLI Aluminum Electrolytic Capacitors , 100 μF; + / - 20%; 16 V , 6,3 x 5,5; Manufacturer: Wurth Elektronik; partNo: 865080343009; E-mail: libraries@we-online.com; Characteristics: Aluminum Electrolytic Capacitor;Recommended soldering: Reflow;Operating temperature: –55 °C to +105 °C;Low impedance product series;Load life: 2000 h @ +105 °C; ComponentLink1Description: Manufacturer; ComponentLink1URL: http://www.we-online.com; ComponentLink2Description: Datasheet; ComponentLink2URL: http://katalog.we-online.de/pbs/datasheet/865080343009.pdf; Created by: Karrer Zheng; Created Date: 5/13/2015; Capacitance: 100 μF; Application: Energy storage or high frequency filtering in the low voltage circuit; used as power supply filtering in general switching power supply, DC-DC converter, AC-DC converter, conversion adapter, charger, TV, VCR, DC motor circuit filter, digital audio, digital TV, digital camera, digital video camera, satellite receiver, equipment control panel and etc.
footprint WCAP-ASLI 6.3x5.5x2.2
pins: 1, 2

## WCAP-ASLI 6.3x7.7x2.2 865080345010
designator C?, comment 150 μF
WCAP-ASLI Aluminum Electrolytic Capacitors , 150 μF; + / - 20%; 16 V , 6,3 x 7,7; Manufacturer: Wurth Elektronik; partNo: 865080345010; E-mail: libraries@we-online.com; Characteristics: Aluminum Electrolytic Capacitor;Recommended soldering: Reflow;Operating temperature: –55 °C to +105 °C;Low impedance product series;Load life: 2000 h @ +105 °C; ComponentLink1Description: Manufacturer; ComponentLink1URL: http://www.we-online.com; ComponentLink2Description: Datasheet; ComponentLink2URL: http://katalog.we-online.de/pbs/datasheet/865080345010.pdf; Created by: Karrer Zheng; Created Date: 5/13/2015; Capacitance: 150 μF; Application: Energy storage or high frequency filtering in the low voltage circuit; used as power supply filtering in general switching power supply, DC-DC converter, AC-DC converter, conversion adapter, charger, TV, VCR, DC motor circuit filter, digital audio, digital TV, digital camera, digital video camera, satellite receiver, equipment control panel and etc.
footprint WCAP-ASLI 6.3x7.7x2.2
pins: 1, 2

## WCAP-ASLI 6.3x7.7x2.2 865080345012
designator C?, comment 220 μF
WCAP-ASLI Aluminum Electrolytic Capacitors , 220 μF; + / - 20%; 16 V , 6,3 x 7,7; Manufacturer: Wurth Elektronik; partNo: 865080345012; E-mail: libraries@we-online.com; Characteristics: Aluminum Electrolytic Capacitor;Recommended soldering: Reflow;Operating temperature: –55 °C to +105 °C;Low impedance product series;Load life: 2000 h @ +105 °C; ComponentLink1Description: Manufacturer; ComponentLink1URL: http://www.we-online.com; ComponentLink2Description: Datasheet; ComponentLink2URL: http://katalog.we-online.de/pbs/datasheet/865080345012.pdf; Created by: Karrer Zheng; Created Date: 5/13/2015; Capacitance: 220 μF; Application: Energy storage or high frequency filtering in the low voltage circuit; used as power supply filtering in general switching power supply, DC-DC converter, AC-DC converter, conversion adapter, charger, TV, VCR, DC motor circuit filter, digital audio, digital TV, digital camera, digital video camera, satellite receiver, equipment control panel and etc.
footprint WCAP-ASLI 6.3x7.7x2.2
pins: 1, 2